# Altium footprint library rcl.PCBLIB: 487 footprints (part 16 of 31)
Each footprint in its own frame and in the unit in brackets; x right, y up, seen from the top. Pads: shape width x height; smd on the part's side, far side on the other; paste and mask are expansions set on the pad; w line width, h text height; cw(c..) or ccw(c..) is an arc to the next point about the centre after c.
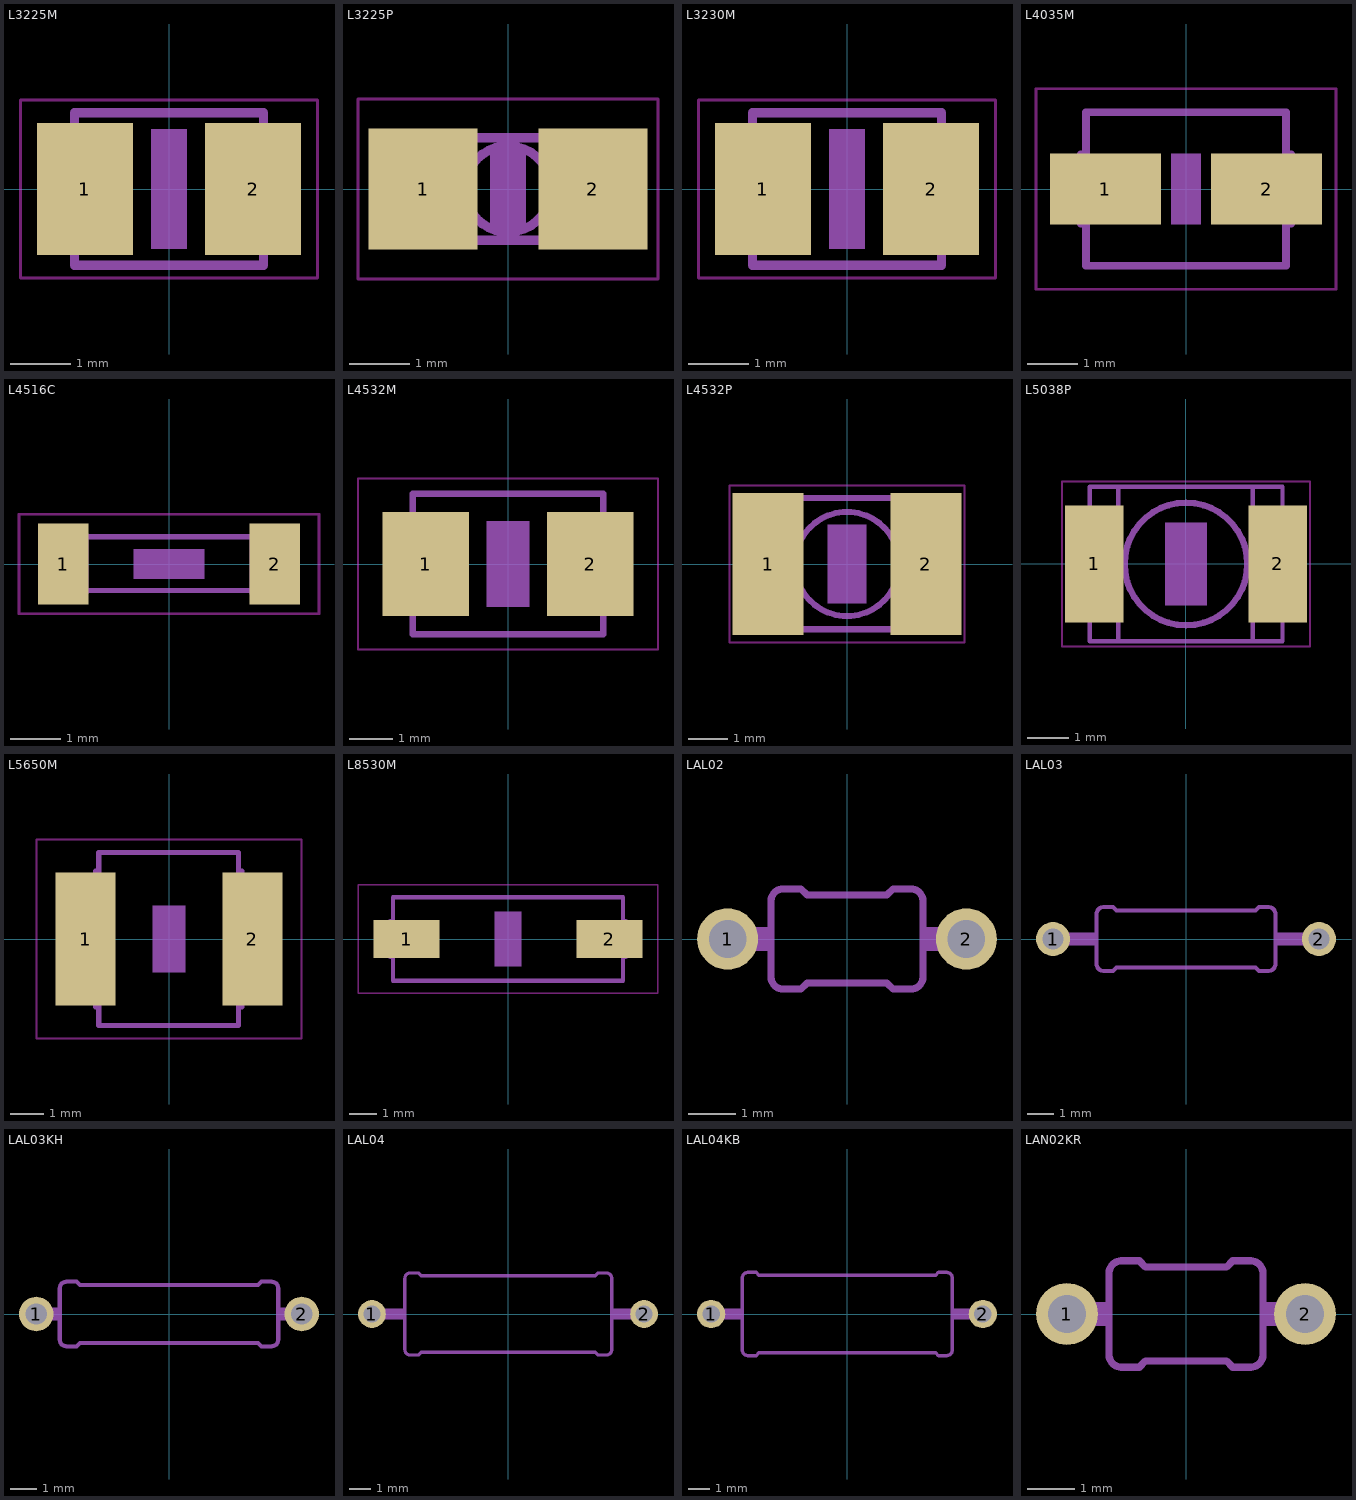
[diagram p15: the footprints below, top view; thin cyan lines are the x and y axes]

## L3225M [mil]
pads (2):
  rect 62.99x86.61 smd: 1(-55.12,0) 2(55.12,0)
Keep-Out Layer:
  lines w2: -97.36,-58.39 97.36,-58.39 97.36,58.39 -97.36,58.39 -97.36,-58.39
Mechanical 8:
  rectangle: -11.81,-39.37 11.81,39.37
Mechanical 18:
  lines w6: -65,-37.01 -65,37.01 ; 65,-37.01 65,37.01 ; -62.01,-50 62.01,-50 62.01,50 -62.01,50 -62.01,-50

## L3225P [mm]
pads (2):
  rect 1.8x2 smd: 1(-1.4,0) 2(1.4,0)
Keep-Out Layer:
  lines w0.051: -2.473,-1.483 2.473,-1.483 2.473,1.483 -2.473,1.483 -2.473,-1.483
Mechanical 8:
  rectangle: -0.3,-0.7 0.3,0.7
Mechanical 18:
  circle w0.152: c0,0 r0.712
  lines w0.152: -1.676,-0.845 1.676,-0.845 ; -1.676,-0.838 -1.676,0.838 ; -1.676,0.845 1.676,0.845 ; -1.168,-0.838 -1.168,0.838 ; 1.168,-0.838 1.168,0.838 ; 1.676,-0.838 1.676,0.838

## L3230M [mil]
pads (2):
  rect 62.99x86.61 smd: 1(-55.12,0) 2(55.12,0)
Keep-Out Layer:
  lines w2: -97.36,-58.39 97.36,-58.39 97.36,58.39 -97.36,58.39 -97.36,-58.39
Mechanical 8:
  rectangle: -11.81,-39.37 11.81,39.37
Mechanical 18:
  lines w6: -65,-37.01 -65,37.01 ; 65,-37.01 65,37.01 ; -62.01,-50 62.01,-50 62.01,50 -62.01,50 -62.01,-50

## L4035M [mil]
pads (2):
  rect 86.61x55.12 smd: 1(-62.99,0) 2(62.99,0)
Keep-Out Layer:
  lines w2: -117.05,-78.07 117.05,-78.07 117.05,78.07 -117.05,78.07 -117.05,-78.07
Mechanical 8:
  rectangle: -11.81,-27.56 11.81,27.56
Mechanical 18:
  lines w6: -82.01,-27.01 -82.01,27.01 ; 82.01,-27.01 82.01,27.01 ; -77.99,-60 -77.99,60 77.99,60 77.99,-60 -77.99,-60

## L4516C [mm]
pads (2):
  rect 1x1.6 smd: 1(-2.1,0) 2(2.1,0)
Keep-Out Layer:
  lines w0.051: -2.973,-0.983 2.973,-0.983 2.973,0.983 -2.973,0.983 -2.973,-0.983
Mechanical 8:
  rectangle: -0.7,-0.3 0.7,0.3
Mechanical 18:
  rectangle: -2.4,-0.597 -1.6,0.603
  rectangle: 1.6,-0.603 2.4,0.597
  lines w0.102: -1.626,-0.527 1.626,-0.527 ; -1.626,0.54 1.626,0.54

## L4532M [mm]
pads (2):
  rect 2x2.4 smd: 1(-1.9,0) 2(1.9,0)
Keep-Out Layer:
  lines w0.051: -3.473,-1.983 3.473,-1.983 3.473,1.983 -3.473,1.983 -3.473,-1.983
Mechanical 8:
  rectangle: -0.5,-1 0.5,1
Mechanical 18:
  lines w0.152: -2.337,-1.041 -2.337,1.041 ; 2.337,-1.041 2.337,1.041 ; -2.21,-1.626 2.21,-1.626 2.21,1.626 -2.21,1.626 -2.21,-1.626

## L4532P [mm]
pads (2):
  rect 1.8x3.6 smd: 1(-2,0) 2(2,0)
Keep-Out Layer:
  lines w0.051: -2.973,-1.983 2.973,-1.983 2.973,1.983 -2.973,1.983 -2.973,-1.983
Mechanical 8:
  rectangle: -0.5,-1 0.5,1
Mechanical 18:
  circle w0.152: c0,0 r1.321
  lines w0.152: -2.311,-1.653 2.311,-1.653 ; -2.311,-1.626 -2.311,1.626 ; -2.311,1.675 2.311,1.675 2.311,-1.626 ; -1.448,-1.626 -1.448,1.651 ; 1.448,-1.626 1.448,1.626

## L5038P [mil]
pads (2):
  rect 55.12x110.24 smd: 1(-86.61,0) 2(86.61,0)
Keep-Out Layer:
  lines w2: -117.05,-78.07 117.05,-78.07 117.05,78.07 -117.05,78.07 -117.05,-78.07
Mechanical 8:
  rectangle: -19.69,-39.37 19.69,39.37
Mechanical 18:
  circle w6: c0,0 r58
  lines w4: -93.94,-50 -93.94,50 ; -90.94,-72.99 -90.94,72.99 ; -90,-73.07 90.98,-73.07 ; -90,72.95 90.98,72.95 ; -63.94,-72.99 -63.94,72.99 ; 63.07,-72.99 63.07,72.99 ; 91.06,-72.99 91.06,72.99 ; 94.06,-50 94.06,50

## L5650M [mm]
pads (2):
  rect 1.8x4 smd: 1(-2.5,0) 2(2.5,0)
Keep-Out Layer:
  lines w0.051: -3.973,-2.983 3.973,-2.983 3.973,2.983 -3.973,2.983 -3.973,-2.983
Mechanical 8:
  rectangle: -0.5,-1 0.5,1
Mechanical 18:
  lines w0.152: -2.21,-2.032 -2.21,2.032 ; 2.184,-2.032 2.184,2.032 ; -2.108,-2.591 2.083,-2.591 2.083,2.591 -2.108,2.591 -2.108,-2.591

## L8530M [mm]
pads (2):
  rect 2.4x1.4 smd: 1(-3.7,0) 2(3.7,0)
Keep-Out Layer:
  lines w0.051: -5.473,-1.983 5.473,-1.983 5.473,1.983 -5.473,1.983 -5.473,-1.983
Mechanical 8:
  rectangle: -0.5,-1 0.5,1
Mechanical 18:
  lines w0.152: -4.293,-0.66 -4.293,0.66 ; 4.293,-0.66 4.293,0.66 ; -4.191,-1.524 -4.191,1.524 4.191,1.524 4.191,-1.524 -4.191,-1.524

## LAL02 [mil]
pads (2):
  round 51.18 hole 31.5: 1(-100,0) 2(100,0)
Mechanical 2:
  rectangle: 63.58,-10 74.8,10
  rectangle: -74.8,-10 -63.58,10
  lines w6: -63.58,-31.97 ccw(c-53.58,-31.97) -53.58,-41.97 -38.58,-41.97 -33.58,-36.97 33.58,-36.97 38.58,-41.97 53.58,-41.97 ccw(c53.58,-31.97) 63.58,-31.97 63.58,31.97 ccw(c53.58,31.97) 53.58,41.97 38.58,41.97 33.58,36.97 -33.58,36.97 -38.58,41.97 -53.58,41.97 ccw(c-53.58,31.97) -63.58,31.97 -63.58,-31.97
Mechanical 18:
  lines w20: -100,0 -75,0 ; 75,0 100,0

## LAL03 [mil]
pads (2):
  round 51.18 hole 31.5: 1(-200,0) 2(200,0)
Mechanical 2:
  rectangle: 134.45,-10 145.67,10
  rectangle: -145.67,-10 -134.45,10
  lines w6: -134.45,-37.87 ccw(c-124.45,-37.87) -124.45,-47.87 -109.45,-47.87 -104.45,-42.87 104.45,-42.87 109.45,-47.87 124.45,-47.87 ccw(c124.45,-37.87) 134.45,-37.87 134.45,37.87 ccw(c124.45,37.87) 124.45,47.87 109.45,47.87 104.45,42.87 -104.45,42.87 -109.45,47.87 -124.45,47.87 ccw(c-124.45,37.87) -134.45,37.87 -134.45,-37.87
Mechanical 18:
  lines w20: -200,0 -145.87,0 ; 145.87,0 200,0

## LAL03KH [mil]
pads (2):
  round 51.18 hole 31.5: 1(-196.85,0) 2(196.85,0)
Mechanical 2:
  rectangle: 162.01,-10 173.23,10
  rectangle: -173.23,-10 -162.01,10
  lines w6: -162.01,-37.87 ccw(c-152.01,-37.87) -152.01,-47.87 -137.01,-47.87 -132.01,-42.87 132.01,-42.87 137.01,-47.87 152.01,-47.87 ccw(c152.01,-37.87) 162.01,-37.87 162.01,37.87 ccw(c152.01,37.87) 152.01,47.87 137.01,47.87 132.01,42.87 -132.01,42.87 -137.01,47.87 -152.01,47.87 ccw(c-152.01,37.87) -162.01,37.87 -162.01,-37.87
Mechanical 18:
  lines w20: -196.85,0 -173.43,0 ; 173.43,0 196.85,0

## LAL04 [mil]
pads (2):
  round 51.18 hole 31.5: 1(-250,0) 2(250,0)
Mechanical 2:
  rectangle: 190.55,-10 201.77,10
  rectangle: -200.79,-10 -189.57,10
  lines w6: -189.57,-65.43 ccw(c-179.57,-65.43) -179.57,-75.43 -164.57,-75.43 -159.57,-70.43 160.55,-70.43 165.55,-75.43 180.55,-75.43 ccw(c180.55,-65.43) 190.55,-65.43 190.55,65.43 ccw(c180.55,65.43) 180.55,75.43 165.55,75.43 160.55,70.43 -159.57,70.43 -164.57,75.43 -179.57,75.43 ccw(c-179.57,65.43) -189.57,65.43 -189.57,-65.43
Mechanical 18:
  lines w20: -250,0 -200.98,0 ; 201.97,0 250,0

## LAL04KB [mil]
pads (2):
  round 51.18 hole 31.5: 1(-246.06,0) 2(246.06,0)
Mechanical 2:
  rectangle: 190.55,-10 201.77,10
  rectangle: -200.79,-10 -189.57,10
  lines w6: -189.57,-65.43 ccw(c-179.57,-65.43) -179.57,-75.43 -164.57,-75.43 -159.57,-70.43 160.55,-70.43 165.55,-75.43 180.55,-75.43 ccw(c180.55,-65.43) 190.55,-65.43 190.55,65.43 ccw(c180.55,65.43) 180.55,75.43 165.55,75.43 160.55,70.43 -159.57,70.43 -164.57,75.43 -179.57,75.43 ccw(c-179.57,65.43) -189.57,65.43 -189.57,-65.43
Mechanical 18:
  lines w20: -246.06,0 -200.98,0 ; 201.97,0 246.06,0

## LAN02KR [mil]
pads (2):
  round 51.18 hole 31.5: 1(-98.43,0) 2(98.43,0)
Mechanical 2:
  rectangle: 63.58,-10 74.8,10
  rectangle: -74.8,-10 -63.58,10
  lines w6: -63.58,-33.94 ccw(c-53.58,-33.94) -53.58,-43.94 -38.58,-43.94 -33.58,-38.94 33.58,-38.94 38.58,-43.94 53.58,-43.94 ccw(c53.58,-33.94) 63.58,-33.94 63.58,33.94 ccw(c53.58,33.94) 53.58,43.94 38.58,43.94 33.58,38.94 -33.58,38.94 -38.58,43.94 -53.58,43.94 ccw(c-53.58,33.94) -63.58,33.94 -63.58,-33.94
Mechanical 18:
  lines w20: -98.43,0 -75,0 ; 75,0 98.43,0